# Altium integrated library S32K118_DEVELOPMENT_BOARD.IntLib: 15 symbols
Pins are listed as number, name and electrical type; pins without a type are passive.

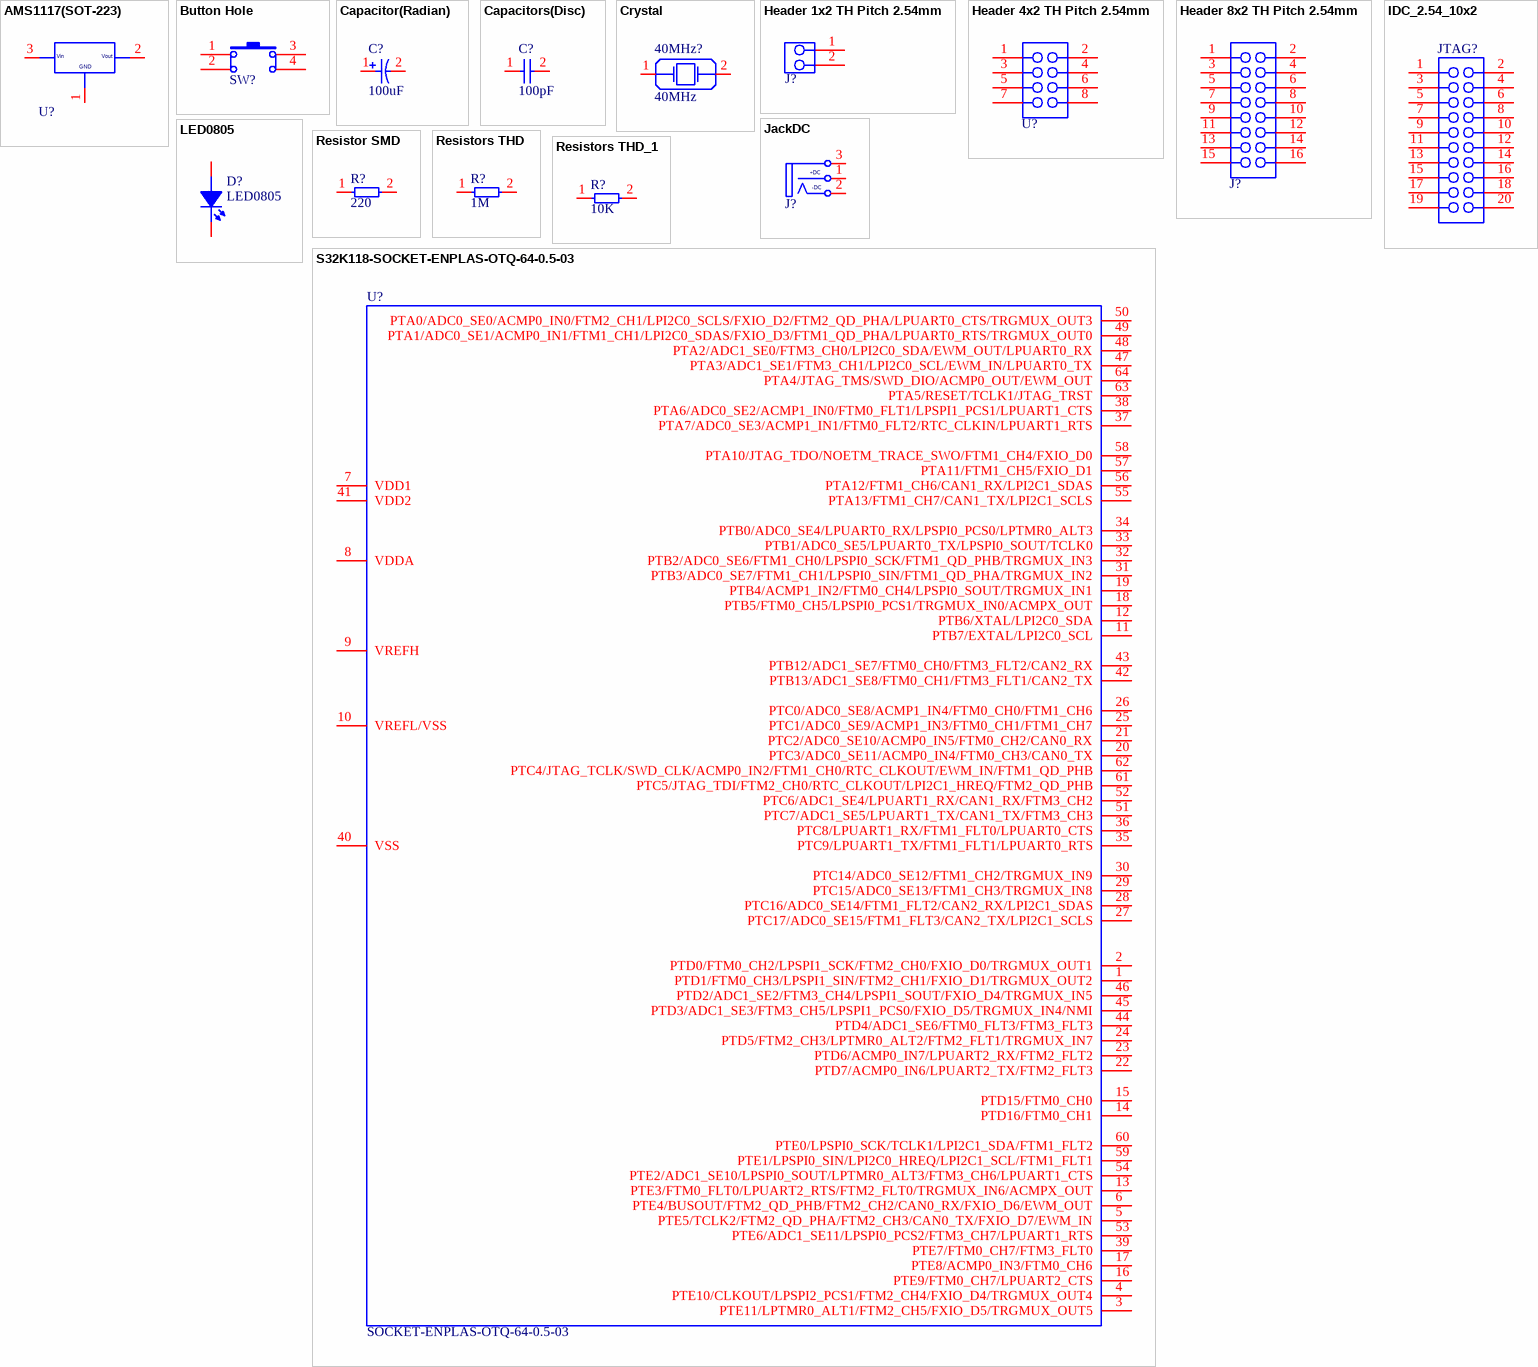
[diagram p0: symbols AMS1117(SOT-223) to S32K118-SOCKET-ENPLAS-OTQ-64-0.5-03]

## AMS1117(SOT-223)
designator U?, comment AMS1117  (value not drawn)
footprint SOT223-3
pins: 1, 2, 3
text: Vin; Vout; GND

## Button Hole
designator SW?  (value not drawn)
footprint BUTTON_HOLE_4.3mm
footprint BUTTON_HOLE_5.0mm
footprint BUTTON_HOLE_7.0mm
footprint BUTTON_HOLE_7.3mm
footprint BUTTON_HOLE_7.5mm
footprint BUTTON_HOLE_8.0mm
footprint BUTTON_HOLE_9.5mm
footprint BUTTON_HOLE_11.0mm
footprint BUTTON_HOLE_12.0mm
footprint BUTTON_HOLE_13.0mm
footprint BUTTON_HOLE_15.0mm
footprint BUTTON_HOLE_17.0mm
footprint BUTTON_HOLE_18.0mm
footprint BUTTON_HOLE_20.0mm
footprint BUTTON_HOLE_22.0mm
footprint BUTTON_HOLE_26.0mm
pins: 1, 2, 3, 4

## Capacitor(Radian)
designator C?, comment 100uF
footprint CAP_6.3_100uF
footprint CAP_RAD_D5x11_POL_BK
footprint CAP_RAD_D6.3x11_POL_BK
footprint CAP_RAD_D8x11.5_POL_BK
footprint CAP_RAD_4mm
footprint CAP_RAD_7mm
footprint CAP_RAD_6mm
pins: 1, 2

## Capacitors(Disc)
designator C?, comment 100pF
footprint CAP_DISC_PITCH_2.54MM
pins: 1, 2

## Crystal
designator 40MHz?, comment 40MHz
footprint HC-49S
footprint HC-49_THROUGH
footprint SMD5032
pins: 1, 2

## Header 1x2 TH Pitch 2.54mm
designator J?  (value not drawn)
footprint Header 2x1 TH Pitch 2.54mm
pins: 1, 2

## Header 4x2 TH Pitch 2.54mm
designator U?, comment nRF24L01  (value not drawn)
footprint Header 4x2 TH Pitch 2.54mm
pins: 1, 2, 3, 4, 5, 6, 7, 8

## Header 8x2 TH Pitch 2.54mm
designator J?  (value not drawn)
footprint Header 8x2 TH Pitch 2.54mm
pins: 1, 2, 3, 4, 5, 6, 7, 8, 9, 10, 11, 12, 13, 14, 15, 16

## IDC_2.54_10x2
designator JTAG?  (value not drawn)
footprint IDC_CONNECTOR_20_2.54
pins: 1, 2, 3, 4, 5, 6, 7, 8, 9, 10, 11, 12, 13, 14, 15, 16, 17, 18, 19, 20

## JackDC
designator J?, comment Connector  (value not drawn)
footprint DC_JACK_161-0721
footprint DC_K375A_Power
pins: 1 DS+ (power) "Sleeve (Ground)", 2 DC- "Tip Normal (Break Contact)", 3 T "Tip"
text: +DC; -DC

## LED0805
designator D?
footprint L0805RED
pins: 1 A, 2 K

## Resistor SMD
designator R?, comment 220
footprint R0603
footprint R0805
footprint R1206
footprint R2010
footprint R2512
pins: 1, 2

## Resistors THD
designator R?, comment 1M
footprint RES-0.125W-H-CF
footprint RES-0.125W-H-MF
footprint RES-0.125W-V-CF
footprint RES-0.125W-V-MF
footprint RES-0.25W-H-CF
footprint RES-0.25W-H-MF
footprint RES-0.25W-V-CF
footprint RES-0.25W-V-MF
footprint RES-0.5W-H-MF
footprint RES-0.5W-H-MF
footprint RES-0.5W-V-MF
footprint RES-0.5W-V-MO
footprint RES-0.5W-HH-MF
footprint RES-0.5W-HH-MO
pins: 1, 2

## Resistors THD_1
designator R?, comment 10K
footprint RES-0.125W-H-CF
footprint RES-0.125W-H-MF
footprint RES-0.125W-V-CF
footprint RES-0.125W-V-MF
footprint RES-0.25W-H-CF
footprint RES-0.25W-H-MF
footprint RES-0.25W-V-CF
footprint RES-0.25W-V-MF
footprint RES-0.5W-H-MF
footprint RES-0.5W-H-MF
footprint RES-0.5W-V-MF
footprint RES-0.5W-V-MO
footprint RES-0.5W-HH-MF
footprint RES-0.5W-HH-MO
pins: 1, 2

## S32K118-SOCKET-ENPLAS-OTQ-64-0.5-03
designator U?, comment SOCKET-ENPLAS-OTQ-64-0.5-03
footprint SOCKET-ADAPTER-OTQ-64-05-03
pins: 1 PTD1/FTM0_CH3/LPSPI1_SIN/FTM2_CH1/FXIO_D1/TRGMUX_OUT2, 2 PTD0/FTM0_CH2/LPSPI1_SCK/FTM2_CH0/FXIO_D0/TRGMUX_OUT1, 3 PTE11/LPTMR0_ALT1/FTM2_CH5/FXIO_D5/TRGMUX_OUT5, 4 PTE10/CLKOUT/LPSPI2_PCS1/FTM2_CH4/FXIO_D4/TRGMUX_OUT4, 5 PTE5/TCLK2/FTM2_QD_PHA/FTM2_CH3/CAN0_TX/FXIO_D7/EWM_IN, 6 PTE4/BUSOUT/FTM2_QD_PHB/FTM2_CH2/CAN0_RX/FXIO_D6/EWM_OUT, 7 VDD1, 8 VDDA, 9 VREFH, 10 VREFL/VSS, 11 PTB7/EXTAL/LPI2C0_SCL, 12 PTB6/XTAL/LPI2C0_SDA, 13 PTE3/FTM0_FLT0/LPUART2_RTS/FTM2_FLT0/TRGMUX_IN6/ACMPX_OUT, 14 PTD16/FTM0_CH1, 15 PTD15/FTM0_CH0, 16 PTE9/FTM0_CH7/LPUART2_CTS, 17 PTE8/ACMP0_IN3/FTM0_CH6, 18 PTB5/FTM0_CH5/LPSPI0_PCS1/TRGMUX_IN0/ACMPX_OUT, 19 PTB4/ACMP1_IN2/FTM0_CH4/LPSPI0_SOUT/TRGMUX_IN1, 20 PTC3/ADC0_SE11/ACMP0_IN4/FTM0_CH3/CAN0_TX, 21 PTC2/ADC0_SE10/ACMP0_IN5/FTM0_CH2/CAN0_RX, 22 PTD7/ACMP0_IN6/LPUART2_TX/FTM2_FLT3, 23 PTD6/ACMP0_IN7/LPUART2_RX/FTM2_FLT2, 24 PTD5/FTM2_CH3/LPTMR0_ALT2/FTM2_FLT1/TRGMUX_IN7, 25 PTC1/ADC0_SE9/ACMP1_IN3/FTM0_CH1/FTM1_CH7, 26 PTC0/ADC0_SE8/ACMP1_IN4/FTM0_CH0/FTM1_CH6, 27 PTC17/ADC0_SE15/FTM1_FLT3/CAN2_TX/LPI2C1_SCLS, 28 PTC16/ADC0_SE14/FTM1_FLT2/CAN2_RX/LPI2C1_SDAS, 29 PTC15/ADC0_SE13/FTM1_CH3/TRGMUX_IN8, 30 PTC14/ADC0_SE12/FTM1_CH2/TRGMUX_IN9, 31 PTB3/ADC0_SE7/FTM1_CH1/LPSPI0_SIN/FTM1_QD_PHA/TRGMUX_IN2, 32 PTB2/ADC0_SE6/FTM1_CH0/LPSPI0_SCK/FTM1_QD_PHB/TRGMUX_IN3, 33 PTB1/ADC0_SE5/LPUART0_TX/LPSPI0_SOUT/TCLK0, 34 PTB0/ADC0_SE4/LPUART0_RX/LPSPI0_PCS0/LPTMR0_ALT3, 35 PTC9/LPUART1_TX/FTM1_FLT1/LPUART0_RTS, 36 PTC8/LPUART1_RX/FTM1_FLT0/LPUART0_CTS, 37 PTA7/ADC0_SE3/ACMP1_IN1/FTM0_FLT2/RTC_CLKIN/LPUART1_RTS, 38 PTA6/ADC0_SE2/ACMP1_IN0/FTM0_FLT1/LPSPI1_PCS1/LPUART1_CTS, 39 PTE7/FTM0_CH7/FTM3_FLT0, 40 VSS, 41 VDD2, 42 PTB13/ADC1_SE8/FTM0_CH1/FTM3_FLT1/CAN2_TX, 43 PTB12/ADC1_SE7/FTM0_CH0/FTM3_FLT2/CAN2_RX, 44 PTD4/ADC1_SE6/FTM0_FLT3/FTM3_FLT3, 45 PTD3/ADC1_SE3/FTM3_CH5/LPSPI1_PCS0/FXIO_D5/TRGMUX_IN4/NMI, 46 PTD2/ADC1_SE2/FTM3_CH4/LPSPI1_SOUT/FXIO_D4/TRGMUX_IN5, 47 PTA3/ADC1_SE1/FTM3_CH1/LPI2C0_SCL/EWM_IN/LPUART0_TX, 48 PTA2/ADC1_SE0/FTM3_CH0/LPI2C0_SDA/EWM_OUT/LPUART0_RX, 49 PTA1/ADC0_SE1/ACMP0_IN1/FTM1_CH1/LPI2C0_SDAS/FXIO_D3/FTM1_QD_PHA/LPUART0_RTS/TRGMUX_OUT0, 50 PTA0/ADC0_SE0/ACMP0_IN0/FTM2_CH1/LPI2C0_SCLS/FXIO_D2/FTM2_QD_PHA/LPUART0_CTS/TRGMUX_OUT3, 51 PTC7/ADC1_SE5/LPUART1_TX/CAN1_TX/FTM3_CH3, 52 PTC6/ADC1_SE4/LPUART1_RX/CAN1_RX/FTM3_CH2, 53 PTE6/ADC1_SE11/LPSPI0_PCS2/FTM3_CH7/LPUART1_RTS, 54 PTE2/ADC1_SE10/LPSPI0_SOUT/LPTMR0_ALT3/FTM3_CH6/LPUART1_CTS, 55 PTA13/FTM1_CH7/CAN1_TX/LPI2C1_SCLS, 56 PTA12/FTM1_CH6/CAN1_RX/LPI2C1_SDAS, 57 PTA11/FTM1_CH5/FXIO_D1, 58 PTA10/JTAG_TDO/NOETM_TRACE_SWO/FTM1_CH4/FXIO_D0, 59 PTE1/LPSPI0_SIN/LPI2C0_HREQ/LPI2C1_SCL/FTM1_FLT1, 60 PTE0/LPSPI0_SCK/TCLK1/LPI2C1_SDA/FTM1_FLT2, 61 PTC5/JTAG_TDI/FTM2_CH0/RTC_CLKOUT/LPI2C1_HREQ/FTM2_QD_PHB, 62 PTC4/JTAG_TCLK/SWD_CLK/ACMP0_IN2/FTM1_CH0/RTC_CLKOUT/EWM_IN/FTM1_QD_PHB, 63 PTA5/RESET/TCLK1/JTAG_TRST, 64 PTA4/JTAG_TMS/SWD_DIO/ACMP0_OUT/EWM_OUT